# EAGLE library part LTC3201 (library PowerProducts)
LT-Spice library generated with : ltspice.ulp from: D:/Program Files (x86)/LTC/LTspiceIV/lib/sym/PowerProducts/LTC3202*.asy at 07.10.2012 17:17:38
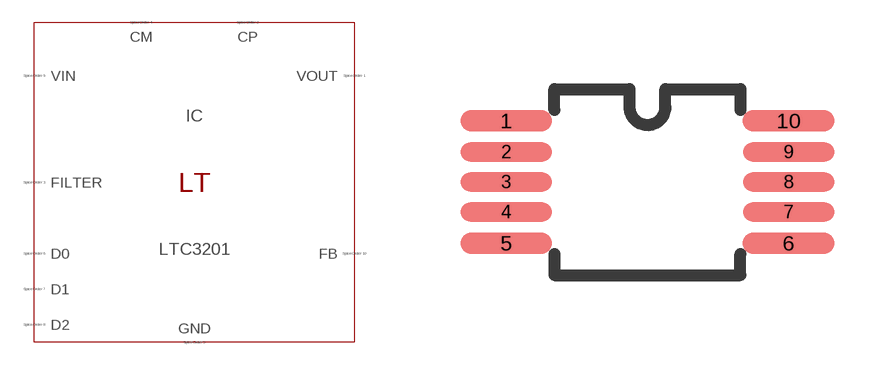
[diagram p126: symbol with the pads of MSOP10(MS); footprint MSOP10(MS)]

Designator prefix IC

## LTC3201 (SPICEMODEL: LTC3201.sub; SPICEPREFIX: X; VALUE2: LTC3201)  [MSOP10(MS)]
1  VOUT  pas
2  CP  pas
3  FILTER  pas
4  CM  pas
5  GND  pas
6  D0  pas
7  D1  pas
8  D2  pas
9  VIN  pas
10  FB  pas

## Footprint MSOP10(MS) (pad centres in mm)
Package generated from: MSOP10(MS).asc (!PADS-POWERPCB-V5.0-BASIC! DESIGN DATABASE ASCII FILE 1.0) with :import-pads-powerpcb-v5.ulp Version 1.0.1 at 04.10.2012 14:11:19
smd 2.295 x 0.54: 1 -3.529,1.53; 5 -3.529,-1.53; 6 3.529,-1.53; 10 3.529,1.53
smd 2.295 x 0.48: 2 -3.529,0.75; 3 -3.529,0; 4 -3.529,-0.75; 7 3.529,-0.75; 8 3.529,0; 9 3.529,0.75